# Altium footprint library PcbLib1.PcbLib: 34 footprints (part 2 of 3)
Each footprint in its own frame and in the unit in brackets; x right, y up, seen from the top. Pads: shape width x height; smd on the part's side, far side on the other; paste and mask are expansions set on the pad; w line width, h text height; cw(c..) or ccw(c..) is an arc to the next point about the centre after c.
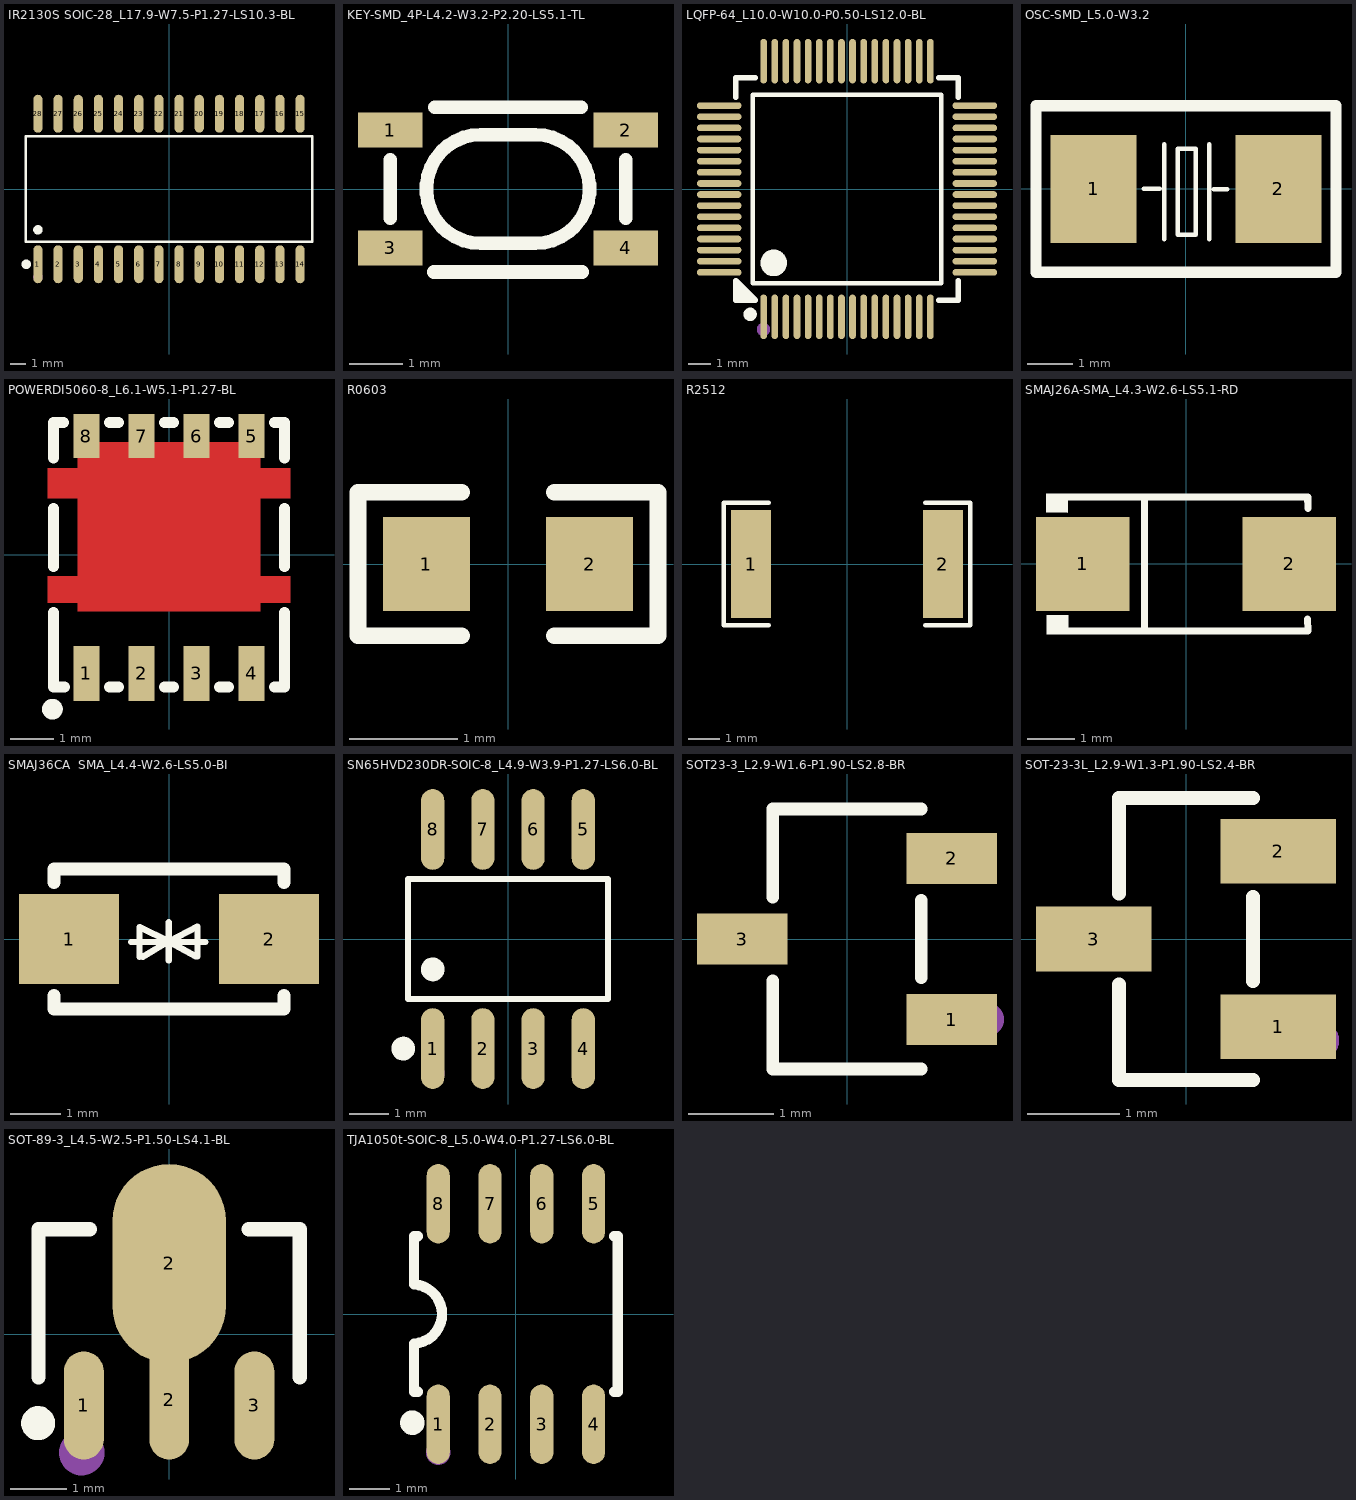
[diagram p1: the footprints below, top view; thin cyan lines are the x and y axes]

## IR2130S SOIC-28_L17.9-W7.5-P1.27-LS10.3-BL [mm]
pads (28):
  oval 0.574x2.388 smd: 1(-8.255,-4.744) 2(-6.985,-4.744) 3(-5.715,-4.744) 4(-4.445,-4.744) 5(-3.175,-4.744) 6(-1.905,-4.744) 7(-0.635,-4.744) 8(0.635,-4.744) 9(1.905,-4.744) 10(3.175,-4.744) 11(4.445,-4.744) 12(5.715,-4.744) 13(6.985,-4.744) 14(8.255,-4.744) 15(8.255,4.744) 16(6.985,4.744) 17(5.715,4.744) 18(4.445,4.744) 19(3.175,4.744) 20(1.905,4.744) 21(0.635,4.744) 22(-0.635,4.744) 23(-1.905,4.744) 24(-3.175,4.744) 25(-4.445,4.744) 26(-5.715,4.744) 27(-6.985,4.744) 28(-8.255,4.744)
Top Overlay:
  circle w0.3: c-8.255,-2.569 r0.15
  circle w0.3: c-8.994,-4.744 r0.15
  lines w0.152: -9.026,-3.321 -9.026,3.321 9.026,3.321 9.026,-3.321 -9.026,-3.321
Mechanical 15:
  circle w0.3: c-8.255,-5.55 r0.15

## KEY-SMD_4P-L4.2-W3.2-P2.20-LS5.1-TL [mm]
pads (4):
  rect 1.2x0.65 smd: 1(-2.2,1.1) 2(2.2,1.1) 3(-2.2,-1.1) 4(2.2,-1.1)
Top Overlay:
  lines w0.254: -2.2,-0.544 -2.2,0.544 ; -1.381,-1.55 1.381,-1.55 ; -1.366,1.524 1.366,1.524 ; 2.2,-0.544 2.2,0.544 ; -0.508,-1.016 cw(c-0.508,0) -0.508,1.016 0.508,1.016 cw(c0.508,0) 0.508,-1.016 -0.508,-1.016

## LQFP-64_L10.0-W10.0-P0.50-LS12.0-BL [mm]
pads (64):
  oval 0.3x2 smd: 1(-3.75,-5.75) 2(-3.25,-5.75) 3(-2.75,-5.75) 4(-2.25,-5.75) 5(-1.75,-5.75) 6(-1.25,-5.75) 7(-0.75,-5.75) 8(-0.25,-5.75) 9(0.25,-5.75) 10(0.75,-5.75) 11(1.25,-5.75) 12(1.75,-5.75) 13(2.25,-5.75) 14(2.75,-5.75) 15(3.25,-5.75) 16(3.75,-5.75) 33(3.75,5.75) 34(3.25,5.75) 35(2.75,5.75) 36(2.25,5.75) 37(1.75,5.75) 38(1.25,5.75) 39(0.75,5.75) 40(0.25,5.75) 41(-0.25,5.75) 42(-0.75,5.75) 43(-1.25,5.75) 44(-1.75,5.75) 45(-2.25,5.75) 46(-2.75,5.75) 47(-3.25,5.75) 48(-3.75,5.75)
  oval 2x0.3 smd: 17(5.75,-3.75) 18(5.75,-3.25) 19(5.75,-2.75) 20(5.75,-2.25) 21(5.75,-1.75) 22(5.75,-1.25) 23(5.75,-0.75) 24(5.75,-0.25) 25(5.75,0.25) 26(5.75,0.75) 27(5.75,1.25) 28(5.75,1.75) 29(5.75,2.25) 30(5.75,2.75) 31(5.75,3.25) 32(5.75,3.75) 49(-5.75,3.75) 50(-5.75,3.25) 51(-5.75,2.75) 52(-5.75,2.25) 53(-5.75,1.75) 54(-5.75,1.25) 55(-5.75,0.75) 56(-5.75,0.25) 57(-5.75,-0.25) 58(-5.75,-0.75) 59(-5.75,-1.25) 60(-5.75,-1.75) 61(-5.75,-2.25) 62(-5.75,-2.75) 63(-5.75,-3.25) 64(-5.75,-3.75)
Top Overlay:
  region: -4.131,-5 -5,-4.131 -5,-5
  lines w0.2: -4.25,-4.25 4.25,-4.25 4.25,4.25 -4.25,4.25 -4.25,-4.25
  lines w0.254: -5,4.131 -5,5 -4.131,5 ; 4.131,-5 5,-5 5,-4.131 ; 4.131,5 5,5 5,4.131 ; -5,-4.131 -5,-5 -4.131,-5 -5,-4.131 ; -5,-4.131 -5,-4.131
  lines w0.3: -4.361,-5.49 ccw(c-4.36,-5.64) -4.359,-5.49
  lines w0.6: -3.299,-3.025 ccw(c-3.297,-3.325) -3.294,-3.025
Mechanical 15:
  circle w0.3: c-3.76,-6.32 r0.15

## OSC-SMD_L5.0-W3.2 [mm]
pads (2):
  rect 1.9x2.4 smd: 1(-2.05,0) 2(2.05,0)
Top Overlay:
  lines w0.1: -0.94,0 -0.584,0 ; -0.483,-1.109 -0.483,0.991 ; 0.517,-1.109 0.517,0.991 ; 0.617,-0.009 0.917,-0.009 ; -0.183,-1.009 0.217,-1.009 0.217,0.89 -0.183,0.89 -0.183,-1.009
  lines w0.254: -3.325,-1.85 -3.325,-0.7 -3.325,0.7 -3.325,1.85 3.325,1.85 3.325,0.7 3.325,-0.7 3.325,-1.85 -3.325,-1.85

## PCBComponent_1 [mm]

## POWERDI5060-8_L6.1-W5.1-P1.27-BL [mm]
pads (8):
  rect 0.6x1.27 smd: 1(-1.904,-2.737) 2(-0.634,-2.737) 3(0.636,-2.737) 4(1.906,-2.737)
  rect 0.6x1.02 smd: 5(1.906,2.737) 6(0.636,2.737) 7(-0.634,2.737) 8(-1.906,2.737)
Top Layer:
  region: -2.1,2.6 -2.1,2 -2.8,2 -2.8,1.3 -2.1,1.3 -2.1,-0.5 -2.8,-0.5 -2.8,-1.1 -2.1,-1.1 -2.1,-1.3 2.1,-1.3 2.1,-1.1 2.8,-1.1 2.8,-0.5 2.1,-0.5 2.1,1.3 2.8,1.3 2.8,2 2.1,2 2.1,2.6 -2.1,2.6 -2.1,2
Top Overlay:
  circle w0.254: c-2.69,-3.56 r0.112
  lines w0.254: -2.667,-1.331 -2.667,-3.048 -2.413,-3.048 ; -2.667,-0.269 -2.667,1.069 ; -2.667,2.231 -2.667,3.048 -2.437,3.048 ; -1.375,3.048 -1.165,3.048 ; -1.373,-3.048 -1.165,-3.048 ; -0.103,-3.048 0.105,-3.048 ; -0.103,3.048 0.105,3.048 ; 1.167,-3.048 1.375,-3.048 ; 1.167,3.048 1.375,3.048 ; 2.437,-3.048 2.667,-3.048 2.667,-1.331 ; 2.437,3.048 2.667,3.048 2.667,2.231 ; 2.667,-0.269 2.667,1.069
Top Paste:
  region: 2.206,3.248 1.607,3.248 1.606,3.247 1.606,2.6 0.936,2.6 0.936,3.248 0.336,3.248 0.336,2.6 -0.334,2.6 -0.334,3.248 -0.934,3.248 -0.934,2.6 -1.607,2.6 -1.607,3.248 -2.206,3.248 -2.206,2.228 -2.1,2.228 -2.1,2 -2.8,2 -2.8,1.3 -2.1,1.3 -2.1,-0.5 -2.8,-0.5 -2.8,-1.099 -2.8,-1.1 -2.1,-1.1 -2.1,-1.3 2.1,-1.3 2.1,-1.1 2.8,-1.1 2.8,-0.5 2.1,-0.5 2.1,1.3 2.8,1.3 2.8,2 2.101,2 2.1,1.999 2.1,2.228 2.206,2.228 2.206,3.235
  region: 1.606,-3.373 2.206,-3.373 2.206,-2.103 1.606,-2.103
  region: 0.336,-3.373 0.936,-3.373 0.936,-2.103 0.336,-2.103
  region: -0.934,-3.373 -0.334,-3.373 -0.334,-2.103 -0.934,-2.103
  region: -2.204,-3.373 -1.604,-3.373 -1.604,-2.103 -2.204,-2.103
  region: -2.1,2.6 -2.1,2 -2.8,2 -2.8,1.3 -2.1,1.3 -2.1,-0.5 -2.8,-0.5 -2.8,-1.1 -2.1,-1.1 -2.1,-1.3 2.1,-1.3 2.1,-1.1 2.8,-1.1 2.8,-0.5 2.1,-0.5 2.1,1.3 2.8,1.3 2.8,2 2.1,2 2.1,2.6 -2.1,2.6 -2.1,2
Top Solder:
  region: -2.1,2.6 -2.1,2 -2.8,2 -2.8,1.3 -2.1,1.3 -2.1,-0.5 -2.8,-0.5 -2.8,-1.1 -2.1,-1.1 -2.1,-1.3 2.1,-1.3 2.1,-1.1 2.8,-1.1 2.8,-0.5 2.1,-0.5 2.1,1.3 2.8,1.3 2.8,2 2.1,2 2.1,2.6 -2.1,2.6 -2.1,2
Mechanical 15:
  circle w0.254: c-1.905,-2.921 r0.127

## R0603 [mm]
pads (2):
  rect 0.806x0.864 smd: 1(-0.753,0) 2(0.753,0)
Top Overlay:
  lines w0.152: -0.426,-0.661 -1.385,-0.661 -1.385,0.661 -0.426,0.661 ; 0.426,-0.661 1.385,-0.661 1.385,0.661 0.426,0.661
Top Solder:
  region: 1.195,0.45 0.395,0.45 0.345,0.4 0.345,0.172 0.715,0.172 0.715,-0.158 0.345,-0.158 0.345,-0.4 0.395,-0.45 1.195,-0.45 1.245,-0.4 1.245,0.4
  region: -0.355,0.4 -0.355,0.172 -0.735,0.172 -0.735,-0.158 -0.355,-0.158 -0.355,-0.4 -0.405,-0.45 -1.195,-0.45 -1.245,-0.4 -1.245,0.4 -1.195,0.45 -0.405,0.45

## R2512 [mm]
pads (2):
  rect 1.283x3.456 smd: 1(-3.066,0) 2(3.066,0)
Top Overlay:
  lines w0.152: -2.501,-1.957 -3.936,-1.957 -3.936,1.957 -2.501,1.957 ; 2.501,-1.957 3.936,-1.957 3.936,1.957 2.501,1.957
Top Paste:
  region: -2.425,-1.628 -2.425,-0.688 -2.525,-0.588 -2.761,-0.588 -2.861,-0.488 -2.861,0.488 -2.761,0.588 -2.525,0.588 -2.425,0.688 -2.425,1.628 -2.525,1.728 -3.608,1.728 -3.708,1.628 -3.708,-1.628 -3.608,-1.728 -2.525,-1.728
  region: 2.425,-1.628 2.425,-0.688 2.525,-0.588 2.761,-0.588 2.861,-0.488 2.861,0.488 2.761,0.588 2.525,0.588 2.425,0.688 2.425,1.628 2.525,1.728 3.608,1.728 3.708,1.628 3.708,-1.628 3.608,-1.728 2.525,-1.728

## SMAJ26A-SMA_L4.3-W2.6-LS5.1-RD [mm]
pads (2):
  rect 2x2 smd: 1(-2.2,0) 2(2.2,0)
Top Overlay:
  region: -2.512,-1.096 -2.513,-1.503 -2.973,-1.498 -2.969,-1.096
  region: -2.52,1.502 -2.521,1.096 -2.981,1.1 -2.977,1.502
  lines w0.152: -2.596,-1.426 2.596,-1.426 ; -2.596,1.426 2.596,1.426 2.603,1.187 ; -0.884,-1.426 -0.884,1.426 ; 2.593,-1.176 2.6,-1.415
Mechanical 15:
  region: 2.014,-0.675 2.014,0.675 1.811,0.675 1.811,-0.675
  region: 2.317,-0.101 2.317,0.101 1.507,0.101 1.507,-0.101
  region: -2.317,-0.101 -2.317,0.101 -1.507,0.101 -1.507,-0.101

## SMAJ36CA  SMA_L4.4-W2.6-LS5.0-BI [mm]
pads (2):
  rect 2x1.8 smd: 1(-2,0) 2(2,0)
Top Overlay:
  lines w0.127: -0.76,-0.06 0.73,-0.06 ; -0.59,-0.36 -0.59,0.24 -0.002,-0.049 ; -0.53,-0.36 -0.002,-0.049 ; -0.002,-0.43 -0.002,-0.049 ; -0.002,0.332 -0.002,-0.049 ; 0.54,-0.35 -0.002,-0.049 ; 0.57,-0.35 0.57,0.25 -0.002,-0.049
  lines w0.254: -2.3,-1.131 -2.3,-1.4 2.3,-1.4 2.3,-1.131 ; -2.3,1.131 -2.3,1.4 2.3,1.4 2.3,1.131

## SN65HVD230DR-SOIC-8_L4.9-W3.9-P1.27-LS6.0-BL [mm]
pads (8):
  oval 0.588x2.045 smd: 1(-1.905,-2.773) 2(-0.635,-2.773) 3(0.635,-2.773) 4(1.905,-2.773) 5(1.905,2.773) 6(0.635,2.773) 7(-0.635,2.773) 8(-1.905,2.773)
Top Overlay:
  circle w0.3: c-1.905,-0.769 r0.15
  circle w0.3: c-2.652,-2.772 r0.15
  lines w0.152: -2.526,-1.521 -2.526,1.521 2.526,1.521 2.526,-1.521 -2.526,-1.521
Mechanical 15:
  circle w0.3: c-1.905,-3.4 r0.15

## SOT23-3_L2.9-W1.6-P1.90-LS2.8-BR [mm]
pads (3):
  rect 1.07x0.6 smd: 1(1.235,-0.95) 2(1.235,0.95) 3(-1.235,0)
Top Overlay:
  lines w0.152: -0.876,-0.495 -0.876,-1.536 0.876,-1.536 ; -0.876,0.495 -0.876,1.536 0.876,1.536 ; 0.876,-0.455 0.876,0.455
Mechanical 15:
  circle w0.2: c1.651,-0.95 r0.1

## SOT-23-3_L2.9-W1.6-P1.90-LS2.8-BR [mm]

## SOT-23-3L_L2.9-W1.3-P1.90-LS2.4-BR [mm]
pads (3):
  rect 1.25x0.7 smd: 1(1,-0.95) 2(1,0.95) 3(-1,0)
Top Overlay:
  lines w0.152: -0.726,-0.495 -0.726,-1.526 0.726,-1.526 ; -0.726,0.495 -0.726,1.526 0.726,1.526 ; 0.726,-0.455 0.726,0.455
Mechanical 15:
  circle w0.2: c1.46,-1.1 r0.1

## SOT-89-3_L4.5-W2.5-P1.50-LS4.1-BL [mm]
pads (4):
  oval 0.7x1.9 smd: 1(-1.501,-1.25) 3(1.501,-1.25)
  oval 0.7x2.1 smd: 2(0,-1.151)
  oval 2x3.5 smd: 2(0,1.25)
Top Overlay:
  circle w0.3: c-2.307,-1.562 r0.15
  lines w0.254: -2.3,-0.75 -2.3,1.85 -1.4,1.85 ; 1.4,1.85 2.3,1.85 2.3,-0.75
Top Paste:
  drawing of 4 lines, arcs and shapes, not listed
Mechanical 15:
  circle w0.4: c-1.539,-2.08 r0.2

## TJA1050t-SOIC-8_L5.0-W4.0-P1.27-LS6.0-BL [mil]
pads (8):
  oval 22.38x76.78 smd: 1(-75,-106.5) 2(-25,-106.5) 3(25,-106.5) 4(75,-106.5) 5(75,106.5) 6(25,106.5) 7(-25,106.5) 8(-75,106.5)
Top Overlay:
  circle w11.81: c-100,-105 r5.91
  lines w10: -98.43,-28.61 ccw(c-99.99,0) -98.23,28.59 ; -98.42,-28.61 -98.42,-59.05 -98.42,-75 -94.83,-75 ; -98.42,28.59 -98.42,59.05 -98.42,75 -94.83,75 ; 94.83,-75 98.42,-75 98.42,-59.05 98.42,59.05 98.42,75 94.83,75
Mechanical 15:
  circle w11.81: c-75,-133.86 r5.91